# Altium footprint library TLV62568PDDCR.PcbLib: 3 footprints
Each footprint in its own frame and in the unit in brackets; x right, y up, seen from the top. Pads: shape width x height; smd on the part's side, far side on the other; paste and mask are expansions set on the pad; w line width, h text height; cw(c..) or ccw(c..) is an arc to the next point about the centre after c.
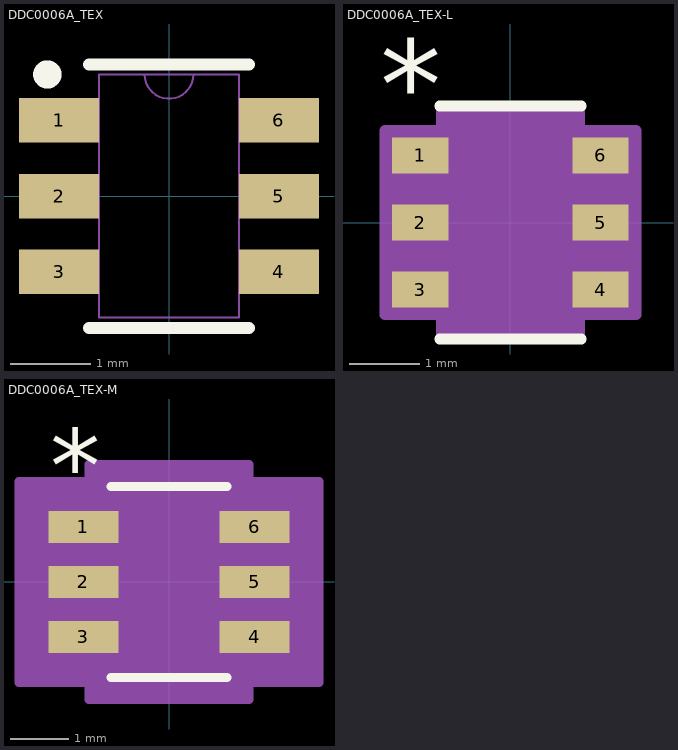
[diagram p0: the footprints below, top view; thin cyan lines are the x and y axes]

## DDC0006A_TEX [mil]
pads (6):
  rect 39.5x22 smd paste+0 mask+0: 1(-54.25,37.4) 2(-54.25,0) 3(-54.25,-37.4) 4(54.25,-37.4) 5(54.25,0) 6(54.25,37.4)
Top Overlay:
  circle w10: c-60,60 r2
  lines w6: -39.5,-65 39.5,-65 ; -39.5,65 39.5,65
Mechanical 13:
  lines w1: -12,60 ccw(c0,60) 12,60 ; -60,-47.4 -34.5,-47.4 -34.5,-27.4 -60,-27.4 -60,-47.4 ; -60,-10 -34.5,-10 -34.5,10 -60,10 -60,-10 ; -60,27.4 -34.5,27.4 -34.5,47.4 -60,47.4 -60,27.4 ; -34.5,-60 -34.5,60 34.5,60 34.5,-60 -34.5,-60 ; 34.5,-47.4 60,-47.4 60,-27.4 34.5,-27.4 34.5,-47.4 ; 34.5,-10 60,-10 60,10 34.5,10 34.5,-10 ; 34.5,27.4 60,27.4 60,47.4 34.5,47.4 34.5,27.4
3D body "DDC0006A_TEX.step": height 43.11, standoff 0, extent -60,-65 60,55

## DDC0006A_TEX-L [mil]
pads (6):
  rect 31.5x20 smd paste+0 mask+0: 1(-50.25,37.4) 2(-50.25,0) 3(-50.25,-37.4) 4(50.25,-37.4) 5(50.25,0) 6(50.25,37.4)
Top Overlay:
  lines w6: -39.5,-65 39.5,-65 ; -39.5,65 39.5,65
  text ".Designator" at -137.5,-25 h50
  text "*" at -72.75,52.4 h50
Mechanical 13:
  lines w1: -12,60 ccw(c0,60) 12,60 ; -60,-47.4 -60,-27.4 -34.5,-27.4 -34.5,-47.4 -60,-47.4 ; -60,-10 -60,10 -34.5,10 -34.5,-10 -60,-10 ; -60,27.4 -60,47.4 -34.5,47.4 -34.5,27.4 -60,27.4 ; -34.5,-60 34.5,-60 34.5,60 -34.5,60 -34.5,-60 ; 34.5,-47.4 34.5,-27.4 60,-27.4 60,-47.4 34.5,-47.4 ; 34.5,-10 34.5,10 60,10 60,-10 34.5,-10 ; 34.5,27.4 34.5,47.4 60,47.4 60,27.4 34.5,27.4
  text "*" at -32,7 h50
  text ".Designator" at -137.5,-25 h50
Mechanical 15:
  region: -38.5,-51.4 -70,-51.4 -70,51.4 -38.5,51.4 -38.5,64 38.5,64 38.5,51.4 70,51.4 70,-51.4 38.5,-51.4 38.5,-64 -38.5,-64
  lines w6: -70,-51.4 -70,51.4 -38.5,51.4 -38.5,64 38.5,64 38.5,51.4 70,51.4 70,-51.4 38.5,-51.4 38.5,-64 -38.5,-64 -38.5,-51.4 -70,-51.4
3D body "DDC0006A_TEX.step": height 43.11, standoff 0, extent -60,-60 60,60

## DDC0006A_TEX-M [mil]
pads (6):
  rect 47.5x22 smd paste+0 mask+0: 1(-58.25,37.4) 2(-58.25,0) 3(-58.25,-37.4) 4(58.25,-37.4) 5(58.25,0) 6(58.25,37.4)
Top Overlay:
  lines w6: -39.5,-65 39.5,-65 ; -39.5,65 39.5,65
  text ".Designator" at -137.5,-25 h50
  text "*" at -80.75,54.4 h50
Mechanical 13:
  lines w1: -12,60 ccw(c0,60) 12,60 ; -60,-47.4 -60,-27.4 -34.5,-27.4 -34.5,-47.4 -60,-47.4 ; -60,-10 -60,10 -34.5,10 -34.5,-10 -60,-10 ; -60,27.4 -60,47.4 -34.5,47.4 -34.5,27.4 -60,27.4 ; -34.5,-60 34.5,-60 34.5,60 -34.5,60 -34.5,-60 ; 34.5,-47.4 34.5,-27.4 60,-27.4 60,-47.4 34.5,-47.4 ; 34.5,-10 34.5,10 60,10 60,-10 34.5,-10 ; 34.5,27.4 34.5,47.4 60,47.4 60,27.4 34.5,27.4
  text "*" at -32,7 h50
  text ".Designator" at -137.5,-25 h50
Mechanical 15:
  region: -54.5,-68.4 -102,-68.4 -102,68.4 -54.5,68.4 -54.5,80 54.5,80 54.5,68.4 102,68.4 102,-68.4 54.5,-68.4 54.5,-80 -54.5,-80
  lines w6: -102,-68.4 -102,68.4 -54.5,68.4 -54.5,80 54.5,80 54.5,68.4 102,68.4 102,-68.4 54.5,-68.4 54.5,-80 -54.5,-80 -54.5,-68.4 -102,-68.4
3D body "DDC0006A_TEX.step": height 43.11, standoff 0, extent -60,-60 60,60